# EAGLE library part HM2102NLT (library HyTechDevices)
2 Channel SMT Transformer Turns ratio: 1CT: 1CT Isolation Voltage: 4300 VDC Inductance: 150 uH Leakage Inductance: 0.50 uH max DataSheet <https://www.mouser.com/datasheet/2/336/HM2102NL-1218600.pdf>
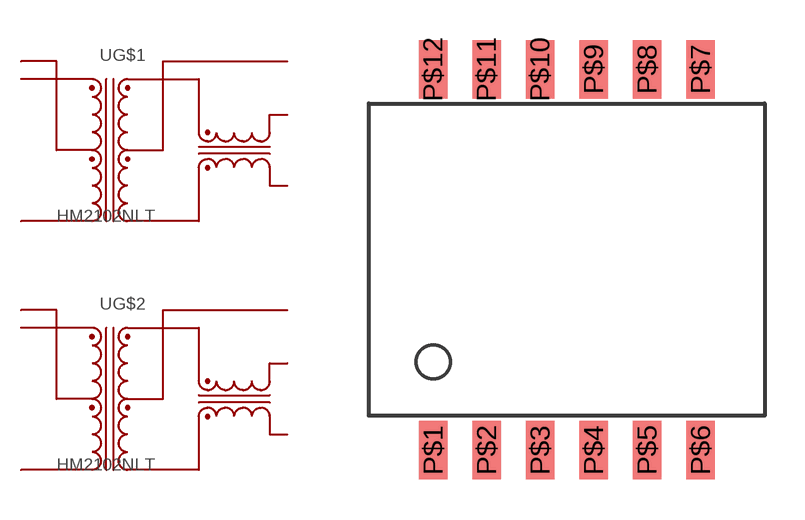
[diagram p97: symbol with the pads of HM2102NLT; footprint HM2102NLT]

Designator prefix -; gates G$1=TRANSFORMER G$2=TRANSFORMER

## HM2102NLT  [HM2102NLT]
P$1  G$1:MX+  pas
P$2  G$1:MCT  pas
P$3  G$1:MX-  pas
P$4  G$2:MX+  pas
P$5  G$2:MCT  pas
P$6  G$2:MX-  pas
P$7  G$2:TD-  pas
P$8  G$2:TCT  pas
P$9  G$2:TD+  pas
P$10  G$1:TD-  pas
P$11  G$1:TCT  pas
P$12  G$1:TD+  pas

## Footprint HM2102NLT (pad centres in mm)
SMD Transformer
smd 1.067 x 2.184: P$1 0,0; P$2 2,0; P$3 4,0; P$4 6,0; P$5 8,0; P$6 10,0; P$7 10,14.25; P$8 8,14.25; P$9 6,14.25; P$10 4,14.25; P$11 2,14.25; P$12 0,14.25